# Altium schematic symbol library TXS0102DQMR.SchLib: 1 symbol
Pins are listed as number, name and electrical type; pins without a type are passive.

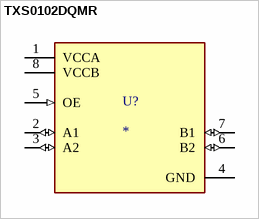
[diagram p0: symbol TXS0102DQMR]

## TXS0102DQMR
designator U?
MP: TXS0102DQMR; Package: None; Value: *; Availability: Unavailable; Price: None
footprint IC_TXS0102DQMR
pins: 1 VCCA (power), 2 A1 (io), 3 A2 (io), 4 GND (power), 5 OE (in), 6 B2 (io), 7 B1 (io), 8 VCCB (power)